# EAGLE library part L86 (library Custom_Parts)
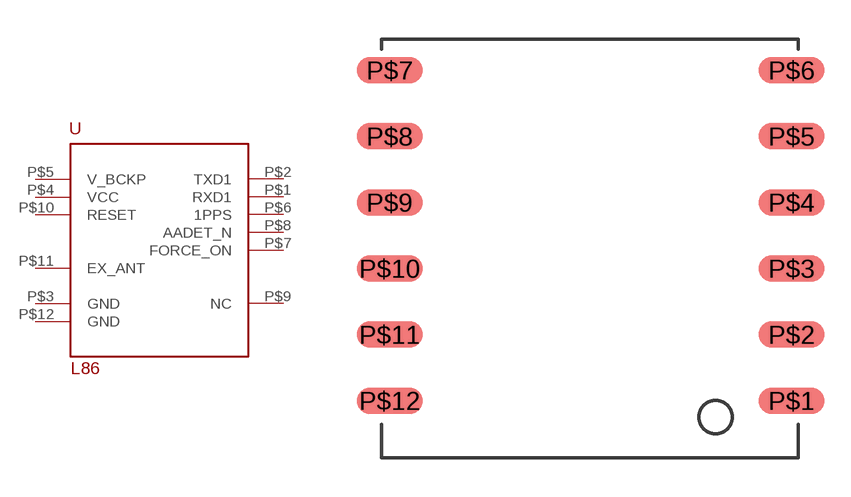
[diagram p3: symbol with the pads of L86; footprint L86]

Designator prefix -

## L86  [L86]
P$1  RXD1
P$2  TXD1
P$3  GND
P$4  VCC
P$5  V_BCKP
P$6  1PPS
P$7  FORCE_ON
P$8  AADET_N
P$9  NC
P$10  RESET
P$11  EX_ANT
P$12  GND

## Footprint L86 (pad centres in mm)
smd 2.54 x 1.016: P$1 -0.254,0; P$2 -0.254,2.54; P$3 -0.254,5.08; P$4 -0.254,7.62; P$5 -0.254,10.16; P$6 -0.254,12.7; P$7 -15.694,12.7; P$8 -15.694,10.16; P$9 -15.694,7.62; P$10 -15.694,5.08; P$11 -15.694,2.54; P$12 -15.694,0